# EAGLE library part 6_PINS (library WallerLabLib)
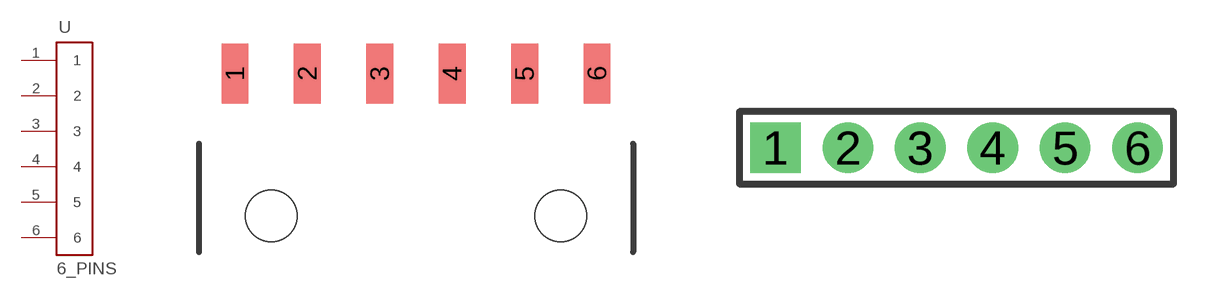
[diagram p5: symbol with the pads of 6PIN_SMD; footprints 6PIN_SMD, 6PIN_HOLES]

Designator prefix -

## 6_PINSV2  [6PIN_SMD]
1  1
2  2
3  3
4  4
5  5
6  6

## 6_PINS  [6PIN_HOLES]
1  6
2  4
3  1
4  2
5  3
6  5

## Footprint 6PIN_SMD (pad centres in mm)
smd 0.94 x 2.1: 1 -6.35,5; 2 -3.81,5; 3 -1.27,5; 4 1.27,5; 5 3.81,5; 6 6.35,5
hole 1.8 at 5.08,0
hole 1.8 at -5.08,0

## Footprint 6PIN_HOLES (pad centres in mm)
drill 0.9 pad 1.778 square: 1 -6.35,0
drill 0.9 pad 1.778: 2 -3.81,0; 3 -1.27,0; 4 1.27,0; 5 3.81,0; 6 6.35,0